# Altium footprint library VQFN-HR-12(2.0X3.0).PcbLib: 1 footprints
Each footprint in its own frame and in the unit in brackets; x right, y up, seen from the top. Pads: shape width x height; smd on the part's side, far side on the other; paste and mask are expansions set on the pad; w line width, h text height; cw(c..) or ccw(c..) is an arc to the next point about the centre after c.
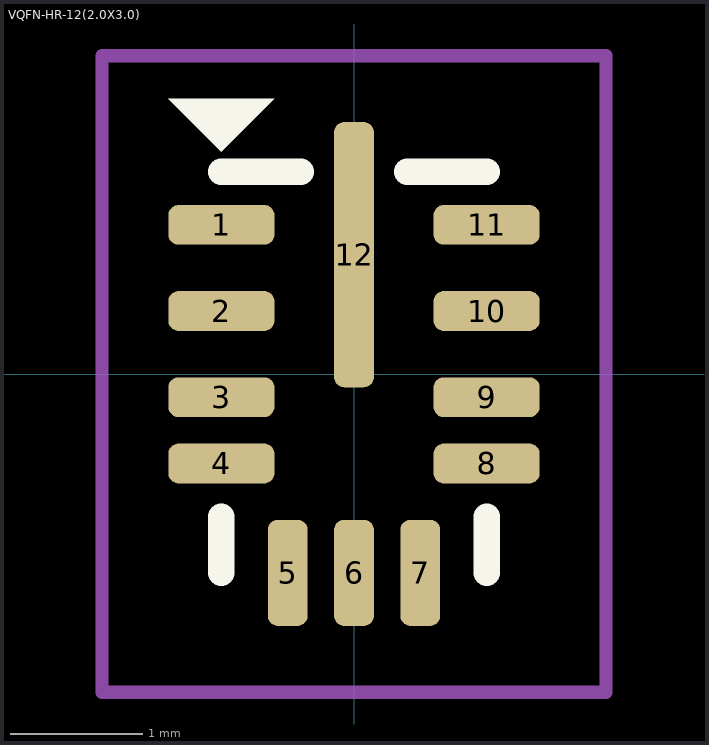
[diagram p0: the footprint, top view; thin cyan lines are the x and y axes]

## VQFN-HR-12(2.0X3.0) [mm]
pads (12):
  rrect50% 0.8x0.3 smd: 1(-1,1.125) 2(-1,0.475) 3(-1,-0.175) 4(-1,-0.675) 8(1,-0.675) 9(1,-0.175) 10(1,0.475) 11(1,1.125)
  rrect50% 0.3x0.8 smd: 5(-0.5,-1.5) 6(0,-1.5) 7(0.5,-1.5)
  rrect50% 0.3x2 smd: 12(0,0.9)
Top Overlay:
  region: -1.4,2.075 -0.6,2.075 -1,1.675
  lines w0.2: -1,-1.5 -1,-1.075 ; -1,1.525 -0.4,1.525 ; 0.4,1.525 1,1.525 ; 1,-1.5 1,-1.075
Top Courtyard:
  lines w0.1: -1.9,-2.4 1.9,-2.4 1.9,2.4 -1.9,2.4 -1.9,-2.4
3D body "RNX0012B.stp": height 1, standoff 0, extent -1,-1.5 1,1.5